# Altium schematic symbol library Schlib1.SchLib: 14 symbols
Pins are listed as number, name and electrical type; pins without a type are passive.

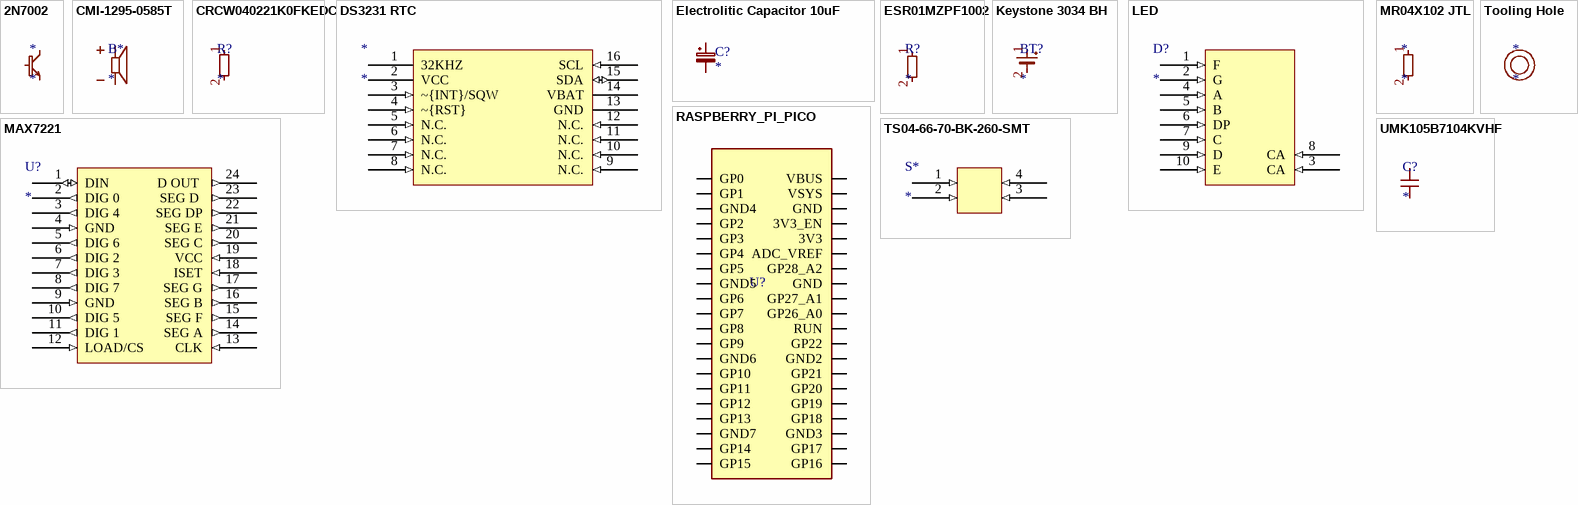
[diagram p0: symbols 2N7002 to UMK105B7104KVHF]

## 2N7002
designator *
Transistor; ComponentLink1Description: New link; ComponentLink1URL: https://eu.mouser.com/ProductDetail/Vishay-Siliconix/2N7002-T1-E3?qs=jcx%252B0HVgj2Z1J1ac9Hiotg%3D%3D&utm_id=22436684815&utm_source=google&utm_medium=cpc&utm_marketing_tactic=emeacorp&gad_source=1&gad_campaignid=22426729329&gbraid=0AAAAADn_wf1Do64Tw2aIrXe33zOqTl_Om&gclid=Cj0KCQjwl5jHBhDHARIsAB0Yqjw-ZGSpO3dx2dSvGBMt7_r144avYgoIM5zojlC5lH09VKLSqUlBBdAaArJKEALw_wcB
footprint 2N7002
pins: 1 G, 2 S, 3 D

## CMI-1295-0585T
designator B*
Buzzer; ComponentLink1Description: New link; ComponentLink1URL: *
footprint CMI-1295-0585T
pins: N, P

## CRCW040221K0FKEDC
designator R?
21k
footprint CRCW040221K0FKEDC
pins: 1, 2

## DS3231 RTC
designator *
footprint DS3231 RTC
pins: 1 32KHZ (oc), 2 VCC (power), 3 ~{INT}/SQW (in), 4 ~{RST} (in), 5 N.C. (in), 6 N.C. (in), 7 N.C. (in), 8 N.C. (in), 9 N.C. (in), 10 N.C. (in), 11 N.C. (in), 12 N.C. (in), 13 GND (power), 14 VBAT (power), 15 SDA (io), 16 SCL (in)

## Electrolitic Capacitor 10uF
designator C?
CGA4J1X7R0J106K125AC / 10u 6.3V 0805
footprint CAPC2012X145N
pins: 1, 2

## ESR01MZPF1002
designator R?
10k
footprint MR04X102 JTL (1k Resistor)
pins: 1, 2

## Keystone 3034 BH
designator BT?
footprint BAT_3034TR
pins: 1, 2

## LED
designator D?
VQB-71
footprint LED_INND-TS56RAB
pins: 1 F (in), 2 G (in), 3 CA (in), 4 A (in), 5 B (in), 6 DP (in), 7 C (in), 8 CA (in), 9 D (in), 10 E (in)

## MAX7221
designator U?
footprint MAX7221
pins: 1 DIN (io), 2 DIG 0 (out), 3 DIG 4 (out), 4 GND (in), 5 DIG 6 (out), 6 DIG 2 (out), 7 DIG 3 (out), 8 DIG 7 (out), 9 GND (in), 10 DIG 5 (out), 11 DIG 1 (out), 12 LOAD/CS (in), 13 CLK (in), 14 SEG A (out), 15 SEG F (out), 16 SEG B (out), 17 SEG G (out), 18 ISET (in), 19 VCC (in), 20 SEG C (out), 21 SEG E (out), 22 SEG DP (out), 23 SEG D  (out), 24 D OUT  (out)

## MR04X102 JTL
designator *
1k
footprint MR04X102 JTL (1k Resistor)
pins: 1, 2

## RASPBERRY_PI_PICO
designator U?  (value not drawn)
Raspberry Pi Board, Arm Cortex-M0+; Core Architecture:Arm; Core Sub-Architecture:Cortex-M0+; Kit Contents:Raspberry Pi Pico Board; No. Of Bits:32Bit; Silicon Core Number:Rp2040; Silicon Manufacturer:Raspberry Pi |Raspberry-Pi RASPBERRY PI PICO; SnapEDA_Link: https://www.snapeda.com/parts/RASPBERRY%20PI%20PICO/Raspberry+Pi/view-part/?ref=snap; Package: None; Value: *; MF: Raspberry Pi; MP: RASPBERRY PI PICO; Check_prices: https://www.snapeda.com/parts/RASPBERRY%20PI%20PICO/Raspberry+Pi/view-part/?ref=eda
footprint RASPBERRY_PI_PICO
pins: 3V3 (io), 3V3_EN (io), ADC_VREF (io), GND (io), GND (io), GND2 (io), GND3 (io), GND4 (io), GND5 (io), GND6 (io), GND7 (io), GP0 (io), GP1 (io), GP2 (io), GP3 (io), GP4 (io), GP5 (io), GP6 (io), GP7 (io), GP8 (io), GP9 (io), GP10 (io), GP11 (io), GP12 (io), GP13 (io), GP14 (io), GP15 (io), GP16 (io), GP17 (io), GP18 (io), GP19 (io), GP20 (io), GP21 (io), GP22 (io), GP26_A0 (io), GP27_A1 (io), GP28_A2 (io), RUN (io), VBUS (io), VSYS (io)

## Tooling Hole
designator *
footprint Tooling Hole

## TS04-66-70-BK-260-SMT
designator S*
50mA 12VDC; ComponentLink1Description: New link; ComponentLink1URL: https://www.mouser.pl/ProductDetail/Same-Sky/TS04-66-70-BK-260-SMT?qs=A6eO%252BMLsxmRC7sCjYvfBWA%3D%3D&mgh=1&vip=1&utm_id=20540008314&utm_source=google&utm_medium=cpc&utm_marketing_tactic=emeacorp&gad_source=1&gad_campaignid=20549663743&gbraid=0AAAAADn_wf3exhVZw2lg0M8R4AHAX7JAt&gclid=Cj0KCQjw9JLHBhC-ARIsAK4PhcrY2_4ccHUHvV6ZUo_WOC_S4ttDTQDRDZOP9uDgYmQccfZ3msk1KAwaApw5EALw_wcB
footprint TS04-66-70-BK-260-SMT (SMD button)
pins: 1 (in), 2 (in), 3 (in), 4 (in)

## UMK105B7104KVHF
designator C?
0.1uF
footprint UMK105B7104KVHF
pins: 1, 2